# EAGLE library part 625010230621 (library Wire_to_Board_Connectors_rev15d)
WR-BHD 2.00mm Male SMT Box Header With Lever, 10 pins
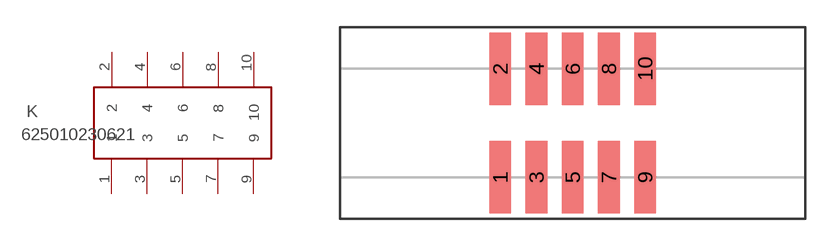
[diagram p215: symbol with the pads of 625010230621; footprint 625010230621]

Designator prefix K

## 625010230621  [625010230621]
1  1  pas
2  2  pas
3  3  pas
4  4  pas
5  5  pas
6  6  pas
7  7  pas
8  8  pas
9  9  pas
10  10  pas

## Footprint 625010230621 (pad centres in mm)
WR-BHD 2.00mm Male SMT Box Header With Lever, 10 pins
smd 1.2 x 4: 1 -4,-3; 2 -4,3; 3 -2,-3; 4 -2,3; 5 0,-3; 6 0,3; 7 2,-3; 8 2,3; 9 4,-3; 10 4,3